# EAGLE library part STM32F2-64_PIN (library p.peter-ics)
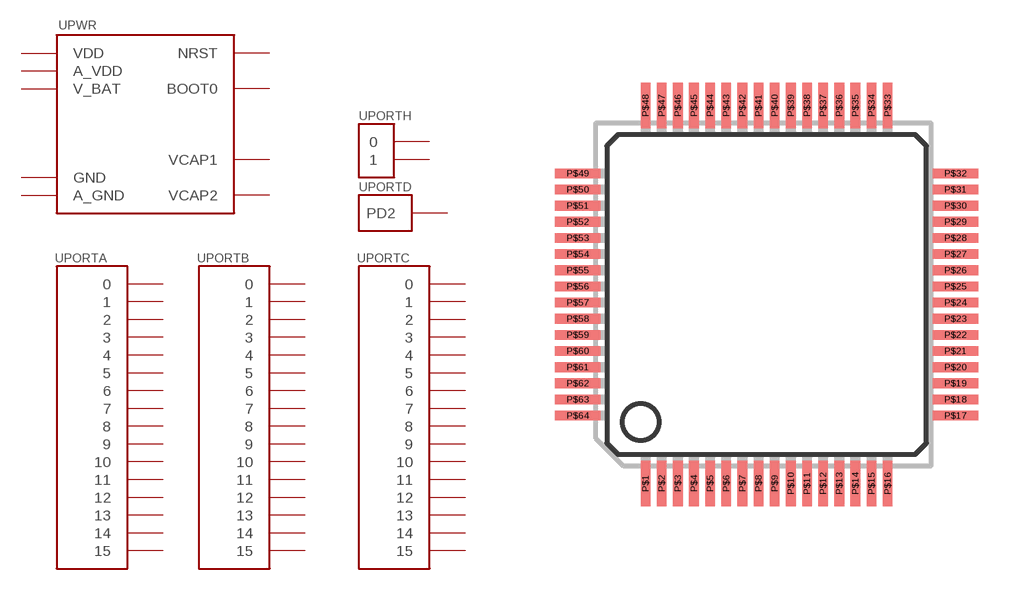
[diagram p8: symbol with the pads of LQFP64; footprint LQFP64]

Designator prefix -; gates PORTA=STM32-PORT PORTB=STM32-PORT PORTC=STM32-PORT PORTH=STM32-PORT_2 PORTD=STM32-PORT_1 PWR=STM32F2-PWR-REDUCED

## STM32F2-64_PIN  [LQFP64]
P$1  PWR:V_BAT  pwr
P$2  PORTC:13
P$3  PORTC:14
P$4  PORTC:15
P$5  PORTH:0
P$6  PORTH:1
P$7  PWR:NRST
P$8  PORTC:0
P$9  PORTC:1
P$10  PORTC:2
P$11  PORTC:3
P$12  PWR:A_GND  pwr
P$13  PWR:A_VDD  pwr
P$14  PORTA:0
P$15  PORTA:1
P$16  PORTA:2
P$17  PORTA:3
P$18  PWR:GND  pwr
P$19  PWR:VDD  pwr
P$20  PORTA:4
P$21  PORTA:5
P$22  PORTA:6
P$23  PORTA:7
P$24  PORTC:4
P$25  PORTC:5
P$26  PORTB:0
P$27  PORTB:1
P$28  PORTB:2
P$29  PORTB:10
P$30  PORTB:11
P$31  PWR:VCAP1
P$32  PWR:VDD  pwr
P$33  PORTB:12
P$34  PORTB:13
P$35  PORTB:14
P$36  PORTB:15
P$37  PORTC:6
P$38  PORTC:7
P$39  PORTC:8
P$40  PORTC:9
P$41  PORTA:8
P$42  PORTA:9
P$43  PORTA:10
P$44  PORTA:11
P$45  PORTA:12
P$46  PORTA:13
P$47  PWR:VCAP2
P$48  PWR:VDD  pwr
P$49  PORTA:14
P$50  PORTA:15
P$51  PORTC:10
P$52  PORTC:11
P$53  PORTC:12
P$54  PORTD:PD2
P$55  PORTB:3
P$56  PORTB:4
P$57  PORTB:5
P$58  PORTB:6
P$59  PORTB:7
P$60  PWR:BOOT0
P$61  PORTB:8
P$62  PORTB:9
P$63  PWR:GND  pwr
P$64  PWR:VDD  pwr

## Footprint LQFP64 (pad centres in mm)
smd 0.3 x 1.4: P$1 -3.75,-5.85; P$2 -3.25,-5.85; P$3 -2.75,-5.85; P$4 -2.25,-5.85; P$5 -1.75,-5.85; P$6 -1.25,-5.85; P$7 -0.75,-5.85; P$8 -0.25,-5.85; P$9 0.25,-5.85; P$10 0.75,-5.85; P$11 1.25,-5.85; P$12 1.75,-5.85; P$13 2.25,-5.85; P$14 2.75,-5.85; P$15 3.25,-5.85; P$16 3.75,-5.85; P$33 3.75,5.85; P$34 3.25,5.85; P$35 2.75,5.85; P$36 2.25,5.85; P$37 1.75,5.85; P$38 1.25,5.85; P$39 0.75,5.85; P$40 0.25,5.85; P$41 -0.25,5.85; P$42 -0.75,5.85; P$43 -1.25,5.85; P$44 -1.75,5.85; P$45 -2.25,5.85; P$46 -2.75,5.85; P$47 -3.25,5.85; P$48 -3.75,5.85
smd 1.4 x 0.3: P$17 5.85,-3.75; P$18 5.85,-3.25; P$19 5.85,-2.75; P$20 5.85,-2.25; P$21 5.85,-1.75; P$22 5.85,-1.25; P$23 5.85,-0.75; P$24 5.85,-0.25; P$25 5.85,0.25; P$26 5.85,0.75; P$27 5.85,1.25; P$28 5.85,1.75; P$29 5.85,2.25; P$30 5.85,2.75; P$31 5.85,3.25; P$32 5.85,3.75; P$49 -5.85,3.75; P$50 -5.85,3.25; P$51 -5.85,2.75; P$52 -5.85,2.25; P$53 -5.85,1.75; P$54 -5.85,1.25; P$55 -5.85,0.75; P$56 -5.85,0.25; P$57 -5.85,-0.25; P$58 -5.85,-0.75; P$59 -5.85,-1.25; P$60 -5.85,-1.75; P$61 -5.85,-2.25; P$62 -5.85,-2.75; P$63 -5.85,-3.25; P$64 -5.85,-3.75